# Altium schematic symbol library Terminal Block 15.SchLib: 1 symbol
Pins are listed as number, name and electrical type; pins without a type are passive.

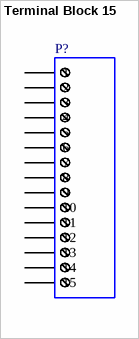
[diagram p0: symbol Terminal Block 15]

## Terminal Block 15
designator P?
Screw terminal block, 15-Way
pins: 1, 2, 3, 4, 5, 6, 7, 8, 9, 10, 11, 12, 13, 14, 15